# Altium footprint library Button_SMD_10mm.PcbLib: 1 footprints
Each footprint in its own frame and in the unit in brackets; x right, y up, seen from the top. Pads: shape width x height; smd on the part's side, far side on the other; paste and mask are expansions set on the pad; w line width, h text height; cw(c..) or ccw(c..) is an arc to the next point about the centre after c.
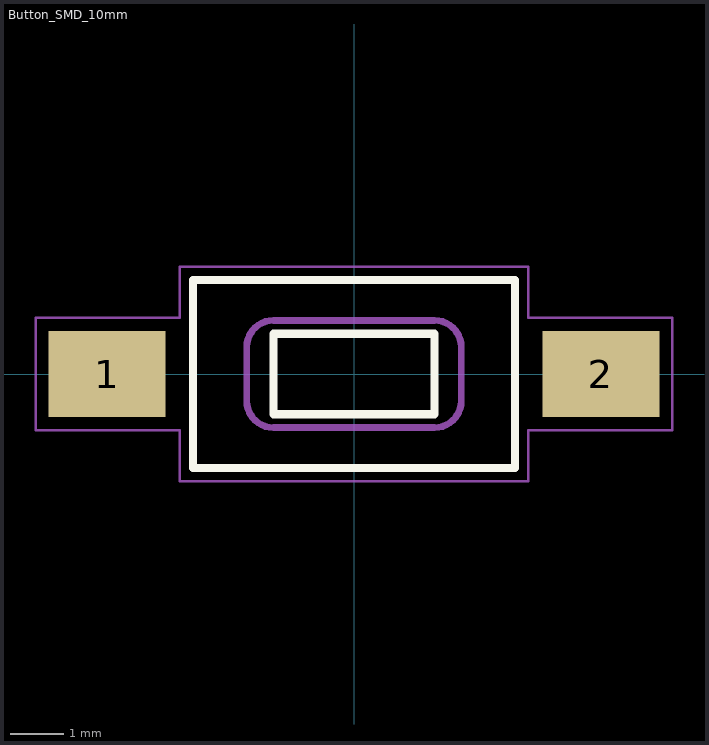
[diagram p0: the footprint, top view; thin cyan lines are the x and y axes]

## Button_SMD_10mm [mm]
pads (2):
  rect 2.18x1.6 smd: 1(-4.6,0) 2(4.6,0)
Top Overlay:
  lines w0.15: -3,-1.75 3,-1.75 3,1.75 -3,1.75 -3,-1.75 ; -1.5,-0.75 1.5,-0.75 1.5,0.75 -1.5,0.75 -1.5,-0.75
Mechanical 13:
  circle w0.2: c-4.6,0 r0.1
  lines w0.127: -3,-1.75 3,-1.75 3,1.75 -3,1.75 -3,-1.75 ; -2,-0.5 ccw(c-1.5,-0.5) -1.5,-1 1.5,-1 ccw(c1.5,-0.5) 2,-0.5 2,0.5 ccw(c1.5,0.5) 1.5,1 -1.5,1 ccw(c-1.5,0.5) -2,0.5 -2,-0.5 ; -1.5,-0.75 1.5,-0.75 1.5,0.75 -1.5,0.75 -1.5,-0.75
Mechanical 15:
  lines w0.05: -5.93,-1.05 -5.93,1.05 -3.25,1.05 -3.25,2 3.25,2 3.25,1.05 5.93,1.05 5.93,-1.05 3.25,-1.05 3.25,-2 -3.25,-2 -3.25,-1.05 -5.93,-1.05
3D body "147873-1.stp": height 5.2, standoff 0, extent -3.4,-1.75 3.4,1.75